# Altium footprint library TVS_ESDALC6V1-5M6.PcbLib: 1 footprints
Each footprint in its own frame and in the unit in brackets; x right, y up, seen from the top. Pads: shape width x height; smd on the part's side, far side on the other; paste and mask are expansions set on the pad; w line width, h text height; cw(c..) or ccw(c..) is an arc to the next point about the centre after c.
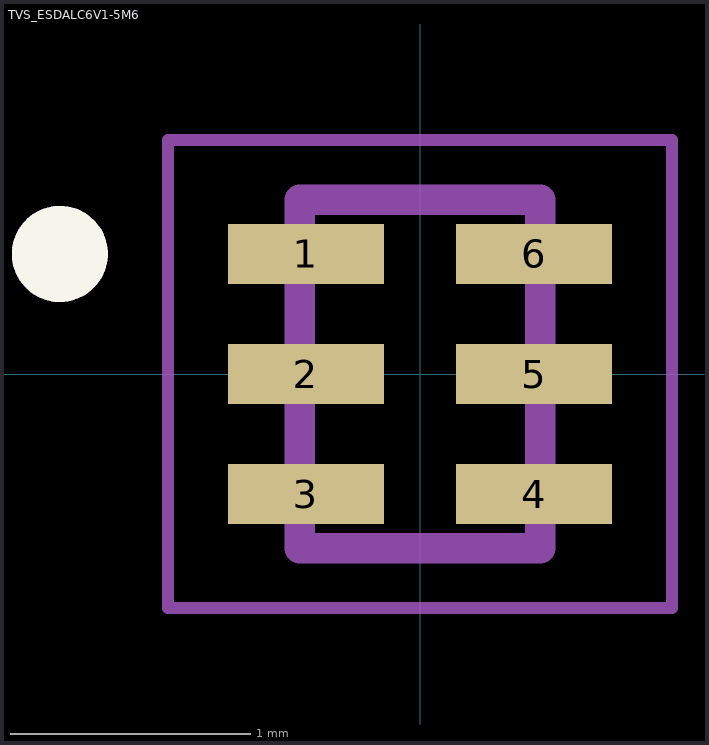
[diagram p0: the footprint, top view; thin cyan lines are the x and y axes]

## TVS_ESDALC6V1-5M6 [mm]
height 0.6
pads (6):
  rect 0.65x0.25 smd paste-1: 1(-0.475,0.5) 2(-0.475,0) 3(-0.475,-0.5) 4(0.475,-0.5) 5(0.475,0) 6(0.475,0.5)
Top Overlay:
  circle w0.2: c-1.5,0.5 r0.1
Top Paste:
  region: 0.785,-0.618 0.165,-0.618 0.165,-0.382 0.785,-0.382
  region: -0.165,-0.618 -0.785,-0.618 -0.785,-0.382 -0.165,-0.382
  region: 0.785,-0.118 0.165,-0.118 0.165,0.118 0.785,0.118
  region: -0.165,-0.118 -0.785,-0.118 -0.785,0.118 -0.165,0.118
  region: 0.785,0.382 0.165,0.382 0.165,0.618 0.785,0.618
  region: -0.165,0.382 -0.785,0.382 -0.785,0.618 -0.165,0.618
Assembly Top:
  circle w0.2: c-1.5,0.5 r0.1
  lines w0.127: -0.5,-0.725 -0.5,0.725 0.5,0.725 0.5,-0.725 -0.5,-0.725
Courtyard Top:
  lines w0.05: -1.05,-0.975 1.05,-0.975 1.05,0.975 -1.05,0.975 -1.05,-0.975
3D body "ESDALC6V1-5M6.stp": height 0.65, standoff 0, extent -0.55,-0.725 0.55,0.725